# Altium footprint library Antenne.PcbLib: 8 footprints
Each footprint in its own frame and in the unit in brackets; x right, y up, seen from the top. Pads: shape width x height; smd on the part's side, far side on the other; paste and mask are expansions set on the pad; w line width, h text height; cw(c..) or ccw(c..) is an arc to the next point about the centre after c.
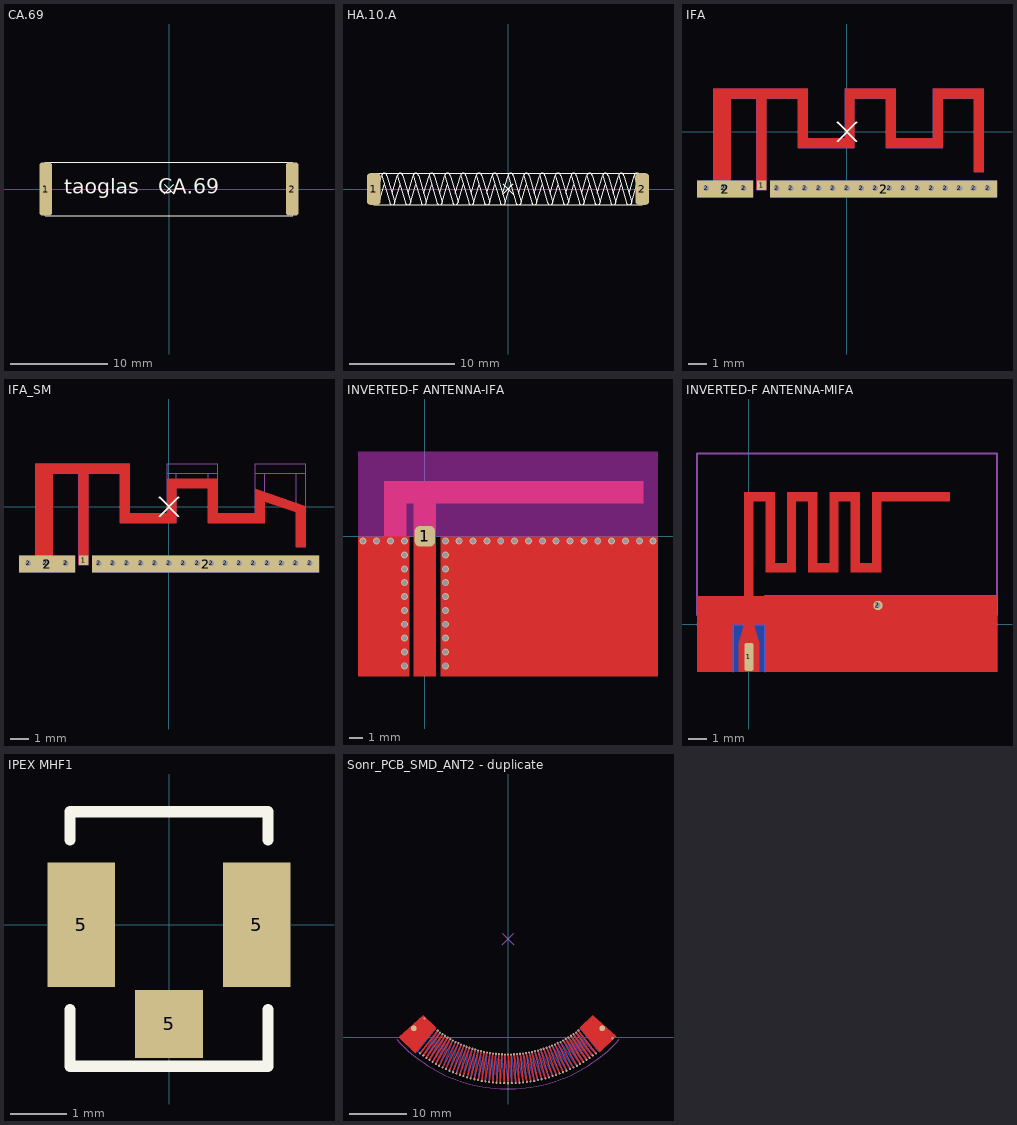
[diagram p0: the footprints below, top view; thin cyan lines are the x and y axes]

## CA.69 [mm]
pads (2):
  rrect50% 1.3x5.5 smd: 1(-12.7,0) 2(12.7,0)
Top Overlay:
  lines w0.1: -0.5,-0.5 0.5,0.5 ; -0.5,0.5 0.5,-0.5 ; -12.75,-2.75 12.75,-2.75 12.75,2.75 -12.75,2.75 -12.75,-2.75
  text "taoglas   CA.69" at -10.792,-0.508 h1.52
3D body: height 0.8, standoff 0, extent -12.75,-2.75 12.75,2.75

## HA.10.A [mm]
pads (2):
  rrect50% 1.3x3 smd: 1(-12.75,0) 2(12.75,0)
Top Overlay:
  circle w0.1: c-12.5,-1.25 r0.25
  lines w0.1: -12.75,-1.25 -12,1.25 ; -12.25,-1.25 -11.75,0.417 ; -11,-0.417 -10.5,1.25 ; -10.25,0.417 -10.75,-1.25 ; -9.5,-0.417 -9,1.25 ; -8.75,0.417 -9.25,-1.25 ; -8,-0.417 -7.5,1.25 ; -7.25,0.417 -7.75,-1.25 ; -6.5,-0.417 -6,1.25 ; -5.75,0.417 -6.25,-1.25 ; -5,-0.417 -4.5,1.25 ; -4.25,0.417 -4.75,-1.25 ; -3.5,-0.417 -3,1.25 ; -2.75,0.417 -3.25,-1.25 ; -2,-0.417 -1.5,1.25 ; -1.25,0.417 -1.75,-1.25 ; -0.5,-0.5 0.5,0.5 ; -0.5,-0.417 0,1.25 ; -0.5,0.5 0.5,-0.5 ; 0.25,0.417 -0.25,-1.25 ; 1,-0.417 1.5,1.25 ; 1.75,0.417 1.25,-1.25 ; 2.5,-0.417 3,1.25 ; 3.25,0.417 2.75,-1.25 ; 4,-0.417 4.5,1.25 ; 4.75,0.417 4.25,-1.25 ; 5.5,-0.417 6,1.25 ; 6.25,0.417 5.75,-1.25 ; 7,-0.417 7.5,1.25 ; 7.75,0.417 7.25,-1.25 ; 8.5,-0.417 9,1.25 ; 9.25,0.417 8.75,-1.25 ; 10,-0.417 10.5,1.25 ; 10.75,0.417 10.25,-1.25 ; 11.5,-0.417 12,1.25 ; 12.25,0.417 11.75,-1.25 ; 12.725,0.5 12.5,1.25 ; -12,1.25 cw(c-11.75,1.25) -11.5,1.25 ; -12,1.25 cw(c-11.75,1.25) -11.5,1.25 ; -12,1.25 cw(c-11.75,1.25) -11.5,1.25 ; -12,1.25 -11.25,-1.25 ; -11.5,1.25 -10.75,-1.25 ; -11.25,-1.25 ccw(c-11,-1.25) -10.75,-1.25 ; -11.25,-1.25 ccw(c-11,-1.25) -10.75,-1.25 ; -10.5,1.25 cw(c-10.25,1.25) -10,1.25 ; -10.5,1.25 cw(c-10.25,1.25) -10,1.25 ; -10.5,1.25 cw(c-10.25,1.25) -10,1.25 ; -10.5,1.25 -9.75,-1.25 ccw(c-9.5,-1.25) -9.25,-1.25 ; -10,1.25 -9.25,-1.25 ; -9,1.25 cw(c-8.75,1.25) -8.5,1.25 ; -9,1.25 cw(c-8.75,1.25) -8.5,1.25 ; -9,1.25 cw(c-8.75,1.25) -8.5,1.25 ; -9,1.25 -8.25,-1.25 ccw(c-8,-1.25) -7.75,-1.25 ; -8.5,1.25 -7.75,-1.25 ; -7.5,1.25 cw(c-7.25,1.25) -7,1.25 ; -7.5,1.25 cw(c-7.25,1.25) -7,1.25 ; -7.5,1.25 cw(c-7.25,1.25) -7,1.25 ; -7.5,1.25 -6.75,-1.25 ccw(c-6.5,-1.25) -6.25,-1.25 ; -7,1.25 -6.25,-1.25 ; -6,1.25 cw(c-5.75,1.25) -5.5,1.25 ; -6,1.25 cw(c-5.75,1.25) -5.5,1.25 ; -6,1.25 cw(c-5.75,1.25) -5.5,1.25 ; -6,1.25 -5.25,-1.25 ccw(c-5,-1.25) -4.75,-1.25 ; -5.5,1.25 -4.75,-1.25 ; -4.5,1.25 cw(c-4.25,1.25) -4,1.25 ; -4.5,1.25 cw(c-4.25,1.25) -4,1.25 ; -4.5,1.25 cw(c-4.25,1.25) -4,1.25 ; -4.5,1.25 -3.75,-1.25 ccw(c-3.5,-1.25) -3.25,-1.25 ; -4,1.25 -3.25,-1.25 ; -3,1.25 cw(c-2.75,1.25) -2.5,1.25 ; -3,1.25 cw(c-2.75,1.25) -2.5,1.25 ; -3,1.25 cw(c-2.75,1.25) -2.5,1.25 ; -3,1.25 -2.25,-1.25 ccw(c-2,-1.25) -1.75,-1.25 ; -2.5,1.25 -1.75,-1.25 ; -1.5,1.25 cw(c-1.25,1.25) -1,1.25 ; -1.5,1.25 cw(c-1.25,1.25) -1,1.25 ; -1.5,1.25 cw(c-1.25,1.25) -1,1.25 ; -1.5,1.25 -0.75,-1.25 ccw(c-0.5,-1.25) -0.25,-1.25 ; -1,1.25 -0.25,-1.25 ; 0,1.25 cw(c0.25,1.25) 0.5,1.25 ; 0,1.25 cw(c0.25,1.25) 0.5,1.25 ; 0,1.25 cw(c0.25,1.25) 0.5,1.25 ; 0,1.25 0.75,-1.25 ccw(c1,-1.25) 1.25,-1.25 ; 0.5,1.25 1.25,-1.25 ; 1.5,1.25 cw(c1.75,1.25) 2,1.25 ; 1.5,1.25 cw(c1.75,1.25) 2,1.25 ; 1.5,1.25 cw(c1.75,1.25) 2,1.25 ; 1.5,1.25 2.25,-1.25 ccw(c2.5,-1.25) 2.75,-1.25 ; 2,1.25 2.75,-1.25 ; 3,1.25 cw(c3.25,1.25) 3.5,1.25 ; 3,1.25 cw(c3.25,1.25) 3.5,1.25 ; 3,1.25 cw(c3.25,1.25) 3.5,1.25 ; 3,1.25 3.75,-1.25 ccw(c4,-1.25) 4.25,-1.25 ; 3.5,1.25 4.25,-1.25 ; 4.5,1.25 cw(c4.75,1.25) 5,1.25 ; 4.5,1.25 cw(c4.75,1.25) 5,1.25 ; 4.5,1.25 cw(c4.75,1.25) 5,1.25 ; 4.5,1.25 5.25,-1.25 ccw(c5.5,-1.25) 5.75,-1.25 ; 5,1.25 5.75,-1.25 ; 6,1.25 cw(c6.25,1.25) 6.5,1.25 ; 6,1.25 cw(c6.25,1.25) 6.5,1.25 ; 6,1.25 cw(c6.25,1.25) 6.5,1.25 ; 6,1.25 6.75,-1.25 ccw(c7,-1.25) 7.25,-1.25 ; 6.5,1.25 7.25,-1.25 ; 7.5,1.25 cw(c7.75,1.25) 8,1.25 ; 7.5,1.25 cw(c7.75,1.25) 8,1.25 ; 7.5,1.25 cw(c7.75,1.25) 8,1.25 ; 7.5,1.25 8.25,-1.25 ccw(c8.5,-1.25) 8.75,-1.25 ; 8,1.25 8.75,-1.25 ; 9,1.25 cw(c9.25,1.25) 9.5,1.25 ; 9,1.25 cw(c9.25,1.25) 9.5,1.25 ; 9,1.25 cw(c9.25,1.25) 9.5,1.25 ; 9,1.25 9.75,-1.25 ccw(c10,-1.25) 10.25,-1.25 ; 9.5,1.25 10.25,-1.25 ; 10.5,1.25 cw(c10.75,1.25) 11,1.25 ; 10.5,1.25 cw(c10.75,1.25) 11,1.25 ; 10.5,1.25 cw(c10.75,1.25) 11,1.25 ; 10.5,1.25 11.25,-1.25 ccw(c11.5,-1.25) 11.75,-1.25 ; 11,1.25 11.75,-1.25 ; 12,1.25 cw(c12.25,1.25) 12.5,1.25 ; 12,1.25 cw(c12.25,1.25) 12.5,1.25 ; 12,1.25 cw(c12.25,1.25) 12.5,1.25 ; 12,1.25 12.75,-1.25 12,1.25 ; -12.75,-1.5 -12.75,1.5 12.75,1.5 12.75,-1.5 -12.75,-1.5

## IFA [mm] "AN043"
pads (25):
  rect 0.5x0.5 smd: 1(-4.55,-2.85)
  round 0.45 hole 0.3: 2(-7.5,-3) 2(-6.6,-3) 2(-5.5,-3) 2(-3.75,-3) 2(-3,-3) 2(-2.25,-3) 2(-1.5,-3) 2(-0.75,-3) 2(0,-3) 2(0.75,-3) 2(1.5,-3) 2(2.25,-3) 2(3,-3) 2(3.75,-3) 2(4.5,-3) 2(5.25,-3) 2(6,-3) 2(6.75,-3) 2(7.5,-3)
  rect 3x0.9 smd: 2(-6.5,-3.05)
  rect 3x0.9 smd far side: 2(-6.5,-3.05)
  round 0.45 hole 0.3 unplated: 2(-5.5,-3)
  rect 12.1x0.9 smd: 2(1.95,-3.05)
  rect 12.1x0.9 smd far side: 2(1.95,-3.05)
Top Layer:
  region: 7.3,-2.14 7.3,2.3 4.6,2.3 4.6,-0.34 2.6,-0.34 2.6,2.3 -0.1,2.3 -0.1,-0.34 -2.1,-0.34 -2.1,2.3 -7.1,2.3 -7.1,-3.1 -6.2,-3.1 -6.2,1.8 -4.8,1.8 -4.8,-3.1 -4.3,-3.1 -4.3,1.8 -2.6,1.8 -2.6,-0.84 0.4,-0.84 0.4,1.8 2.1,1.8 2.1,-0.84 5.1,-0.84 5.1,1.8 6.8,1.8 6.8,-2.14
Top Overlay:
  lines w0.1: -0.5,-0.5 0.5,0.5 ; -0.5,0.5 0.5,-0.5
Top Solder:
  rectangle: -7.6,-2.6 7.6,2.6
  lines w0.01: -7.1,-2.6 -7.6,-2.6 ; -7.6,-2.6 -7.6,2.6 7.6,2.6 7.6,-2.6 -7.6,-2.6
Bottom Solder:
  rectangle: -7.6,-2.6 7.6,2.6
Mechanical 15:
  lines w0.01: -2.6,-0.34 -2.6,-0.84 ; -2.6,1.3 -2.6,1.8 ; 2.1,-0.34 2.1,-0.84 ; 2.1,1.3 2.1,1.8 ; -7.1,-3.1 -7.1,1.8 ; -7.1,-3.1 -6.2,-3.1 ; -7.1,-3.1 -7.1,-2.6 -6.2,-3.1 ; -7.1,1.8 -6.2,1.8 ; -7.1,1.8 -6.6,1.8 -7.1,1.8 ; -7.1,1.8 -2.1,1.8 ; -7.1,1.8 -7.1,2.3 -2.1,2.3 -2.1,1.8 ; -6.2,-3.1 -6.2,1.8 ; -6.2,1.8 -4.8,1.8 ; -4.8,1.8 -4.3,1.8 -4.3,-3.1 -4.8,-3.1 -4.8,1.8 ; -2.6,-0.84 -2.6,1.8 ; -2.6,-0.84 -2.1,-0.84 ; -2.6,1.8 -2.1,1.8 ; -2.6,1.8 -2.1,1.8 ; -2.6,1.8 -2.1,1.8 ; -2.6,1.8 -2.1,1.8 ; -2.1,-0.84 -2.1,1.8 ; -2.1,-0.84 -2.1,-0.34 -0.1,-0.34 -0.1,-0.84 ; -2.1,-0.84 -0.1,-0.84 ; -0.1,-0.84 -0.1,1.8 ; -0.1,-0.84 0.4,-0.84 0.4,1.8 ; -0.1,1.8 0.4,1.8 ; -0.1,1.8 -0.1,2.3 2.6,2.3 2.6,1.8 ; -0.1,1.8 0.4,1.8 ; -0.1,1.8 2.6,1.8 ; 2.1,-0.84 2.1,1.8 ; 2.1,-0.84 2.6,-0.84 ; 2.1,1.8 2.6,1.8 ; 2.1,1.8 2.6,1.8 ; 2.6,-0.84 2.6,1.8 ; 2.6,-0.84 2.6,-0.34 4.6,-0.34 4.6,-0.84 ; 2.6,-0.84 4.6,-0.84 ; 4.6,-0.84 5.1,-0.84 5.1,1.8 4.6,1.8 ; 4.6,-0.84 4.6,1.8 ; 4.6,1.8 4.6,2.3 7.3,2.3 7.3,1.8 ; 4.6,1.8 7.3,1.8 ; 7.3,1.8 6.8,1.8 6.8,-2.14 7.3,-2.14 7.3,1.8

## IFA_SM [mm] "AN043"
pads (25):
  rect 0.5x0.5 smd: 1(-4.55,-2.85)
  round 0.45 hole 0.3: 2(-7.5,-3) 2(-6.6,-3) 2(-5.5,-3) 2(-3.75,-3) 2(-3,-3) 2(-2.25,-3) 2(-1.5,-3) 2(-0.75,-3) 2(0,-3) 2(0.75,-3) 2(1.5,-3) 2(2.25,-3) 2(3,-3) 2(3.75,-3) 2(4.5,-3) 2(5.25,-3) 2(6,-3) 2(6.75,-3) 2(7.5,-3)
  rect 3x0.9 smd: 2(-6.5,-3.05)
  rect 3x0.9 smd far side: 2(-6.5,-3.05)
  round 0.45 hole 0.3 unplated: 2(-5.5,-3)
  rect 12.1x0.9 smd: 2(1.95,-3.05)
  rect 12.1x0.9 smd far side: 2(1.95,-3.05)
Top Layer:
  region: 7.3,-2.14 7.3,0.025 4.6,0.975 4.6,-0.34 2.6,-0.34 2.6,1.5 -0.1,1.5 -0.1,-0.34 -2.1,-0.34 -2.1,2.3 -7.1,2.3 -7.1,-3.1 -6.2,-3.1 -6.2,1.8 -4.8,1.8 -4.8,-3.1 -4.3,-3.1 -4.3,1.8 -2.6,1.8 -2.6,-0.84 0.4,-0.84 0.4,1 2.1,1 2.1,-0.84 5.1,-0.84 5.1,0.275 6.8,-0.3 6.8,-2.14
Top Overlay:
  lines w0.1: -0.5,-0.5 0.5,0.5 ; -0.5,0.5 0.5,-0.5
Top Solder:
  rectangle: -7.6,-2.6 7.6,2.6
  lines w0.01: -7.1,-2.6 -7.6,-2.6 ; -7.6,-2.6 7.6,-2.6 7.6,2.6 -7.6,2.6 -7.6,-2.6
Bottom Solder:
  rectangle: -7.6,-2.6 7.6,2.6
Mechanical 15:
  lines w0.01: -2.6,-0.34 -2.6,-0.84 ; -2.6,1.3 -2.6,1.8 ; 2.1,-0.34 2.1,-0.84 ; 2.1,1.3 2.1,1.8 ; -7.1,-3.1 -7.1,-2.6 -6.2,-3.1 ; -7.1,-3.1 -6.2,-3.1 ; -7.1,-3.1 -7.1,1.8 ; -7.1,1.8 -7.1,2.3 -2.1,2.3 -2.1,1.8 ; -7.1,1.8 -6.6,1.8 -7.1,1.8 ; -7.1,1.8 -2.1,1.8 ; -7.1,1.8 -6.2,1.8 ; -6.2,-3.1 -6.2,1.8 ; -6.2,1.8 -4.8,1.8 ; -4.8,1.8 -4.8,-3.1 -4.3,-3.1 -4.3,1.8 -4.8,1.8 ; -2.6,-0.84 -2.1,-0.84 ; -2.6,-0.84 -2.6,1.8 ; -2.6,1.8 -2.1,1.8 ; -2.6,1.8 -2.1,1.8 ; -2.6,1.8 -2.1,1.8 ; -2.6,1.8 -2.1,1.8 ; -2.1,-0.84 -0.1,-0.84 ; -2.1,-0.84 -2.1,-0.34 -0.1,-0.34 -0.1,-0.84 ; -2.1,-0.84 -2.1,1.8 ; -0.1,-0.84 0.4,-0.84 0.4,1.8 ; -0.1,-0.84 -0.1,1.8 ; -0.1,1.8 2.6,1.8 ; -0.1,1.8 0.4,1.8 ; -0.1,1.8 -0.1,2.3 2.6,2.3 2.6,1.8 ; -0.1,1.8 0.4,1.8 ; 2.1,-0.84 2.6,-0.84 ; 2.1,-0.84 2.1,1.8 ; 2.1,1.8 2.6,1.8 ; 2.1,1.8 2.6,1.8 ; 2.6,-0.84 4.6,-0.84 ; 2.6,-0.84 2.6,-0.34 4.6,-0.34 4.6,-0.84 ; 2.6,-0.84 2.6,1.8 ; 4.6,-0.84 4.6,1.8 ; 4.6,-0.84 5.1,-0.84 5.1,1.8 4.6,1.8 ; 4.6,1.8 7.3,1.8 ; 4.6,1.8 4.6,2.3 7.3,2.3 7.3,1.8 ; 7.3,1.8 7.3,-2.14 6.8,-2.14 6.8,1.8 7.3,1.8

## INVERTED-F ANTENNA-IFA [mm]
pads (1):
  rrect50% 1.5x1.5 smd mask+0.102: 1(0,0)
via -3.531,-0.356 diameter 0.508 hole 0.381
via -2.515,-0.356 diameter 0.508 hole 0.381
via 16.739,-0.356 diameter 0.508 hole 0.381
via 15.723,-0.356 diameter 0.508 hole 0.381
via 14.707,-0.356 diameter 0.508 hole 0.381
via 13.691,-0.356 diameter 0.508 hole 0.381
via 12.675,-0.356 diameter 0.508 hole 0.381
via 11.659,-0.356 diameter 0.508 hole 0.381
via 10.643,-0.356 diameter 0.508 hole 0.381
via 9.627,-0.356 diameter 0.508 hole 0.381
via 8.611,-0.356 diameter 0.508 hole 0.381
via 7.595,-0.356 diameter 0.508 hole 0.381
via 6.579,-0.356 diameter 0.508 hole 0.381
via 5.563,-0.356 diameter 0.508 hole 0.381
via 4.547,-0.356 diameter 0.508 hole 0.381
via 3.531,-0.356 diameter 0.508 hole 0.381
via 1.499,-1.372 diameter 0.508 hole 0.381
via 2.515,-0.356 diameter 0.508 hole 0.381
via -1.499,-0.356 diameter 0.508 hole 0.381
via 1.499,-0.356 diameter 0.508 hole 0.381
via -4.547,-0.356 diameter 0.508 hole 0.381
via -1.499,-1.372 diameter 0.508 hole 0.381
via -1.499,-2.388 diameter 0.508 hole 0.381
via -1.499,-3.404 diameter 0.508 hole 0.381
via -1.499,-4.42 diameter 0.508 hole 0.381
via -1.499,-5.436 diameter 0.508 hole 0.381
via -1.499,-6.452 diameter 0.508 hole 0.381
via -1.499,-7.468 diameter 0.508 hole 0.381
via -1.499,-8.484 diameter 0.508 hole 0.381
via -1.499,-9.5 diameter 0.508 hole 0.381
via 1.499,-2.388 diameter 0.508 hole 0.381
via 1.499,-3.404 diameter 0.508 hole 0.381
via 1.499,-4.42 diameter 0.508 hole 0.381
via 1.499,-5.436 diameter 0.508 hole 0.381
via 1.499,-6.452 diameter 0.508 hole 0.381
via 1.499,-7.468 diameter 0.508 hole 0.381
via 1.499,-8.484 diameter 0.508 hole 0.381
via 1.499,-9.5 diameter 0.508 hole 0.381
Top Layer:
  rectangle: -0.826,0 0.826,4.064
  rectangle: -2.984,2.413 16.015,4.064
  rectangle: -2.984,-0.025 -1.333,4.064
  rectangle: -0.826,-10.287 0.826,0.089
  rectangle: -4.902,-10.287 -1.13,0
  region: 17.094,0 1.13,0 1.13,-10.287 17.094,-10.287
Keep-Out Layer:
  rectangle: -4.902,0 17.094,6.223

## INVERTED-F ANTENNA-MIFA [mm]
pads (2):
  rrect50% 0.5x1.5 smd mask+0.102: 1(0,-1.75)
  round 0.5 hole 0.3 mask+0.102: 2(6.934,1.016)
Top Layer:
  rectangle: -0.254,-0.203 0.254,7.112
  region: 10.795,6.604 10.795,7.112 6.604,7.112 6.604,6.604
  region: -0.254,7.112 -0.254,6.604 1.397,6.604 1.397,7.112
  region: 1.397,7.112 0.889,7.112 0.889,2.794 1.397,2.794
  region: 2.54,2.794 2.54,3.302 0.889,3.302 0.889,2.794
  region: 2.54,7.112 2.032,7.112 2.032,2.794 2.54,2.794
  region: 2.032,7.112 2.032,6.604 3.683,6.604 3.683,7.112
  region: 3.683,7.112 3.175,7.112 3.175,2.794 3.683,2.794
  region: 4.826,2.794 4.826,3.302 3.175,3.302 3.175,2.794
  region: 4.826,7.112 4.318,7.112 4.318,2.794 4.826,2.794
  region: 4.318,7.112 4.318,6.604 5.969,6.604 5.969,7.112
  region: 5.969,7.112 5.461,7.112 5.461,2.794 5.969,2.794
  region: 7.112,2.794 7.112,3.302 5.461,3.302 5.461,2.794
  region: 7.112,7.112 6.604,7.112 6.604,2.794 7.112,2.794
  region: 7.188,0.762 7.188,1.27 -0.254,1.27 -0.254,0.762
  pour cut-out: -2.794,0 13.335,0 13.335,1.524 -2.794,1.524
  region: -2.794,-2.54 -2.794,0 -0.899,0 -0.899,-2.54
  region: 0.864,-2.54 0.864,0 13.335,0 13.335,-2.54
  region: 0.254,0 0.559,-1.016 0.559,-2.54 0,-2.54 0,0
  region: -0.254,0 -0.559,-1.016 -0.559,-2.54 0,-2.54 0,0
Bottom Layer:
  pour cut-out: -2.794,0 13.335,0 13.335,1.524 -2.794,1.524
  region: 13.335,-2.54 -2.794,-2.54 -2.794,0 0.864,0 0.864,1.524 13.335,1.524
Mechanical 1:
  lines w0.1: -2.794,0 -0.864,0 -0.864,-2.54 ; 0.864,-2.54 0.864,0 13.335,0 ; -2.794,0.5 -2.794,9.195 13.335,9.195 13.335,0.5 -2.794,0.5
Mechanical 13:
  lines w0.1: -2.794,0 0.864,0 0.864,1.524 13.335,1.524

## IPEX MHF1 [mm]
pads (3):
  rect 1.2x2.2 smd: 5(-1.55,0) 5(1.55,0)
  rect 1.2x1.2 smd: 5(0,-1.75)
Top Overlay:
  lines w0.2: -1.75,-1.5 -1.75,-2.5 1.75,-2.5 1.75,-1.5 ; -1.75,1.5 -1.75,2 1.75,2 1.75,1.5
3D body "User Library-20279-001.step": height 1.25, standoff -0.01, extent -1.5,-1.55 1.5,1.55

## Sonr_PCB_SMD_ANT2 - duplicate [mm]
pads (2):
  round 1 smd paste-2: 1(-16.321,1.512) 1(16.321,1.512)
via -10,-0.321 diameter 0.36 hole 0.2
via -10.45,-0.053 diameter 0.36 hole 0.2
via -10.893,0.227 diameter 0.36 hole 0.2
via -12.175,1.133 diameter 0.36 hole 0.2
via 7.1,-6.97 diameter 0.36 hole 0.2
via -3.263,-7.786 diameter 0.36 hole 0.2
via -7.1,-6.97 diameter 0.36 hole 0.2
via -7.725,-6.776 diameter 0.36 hole 0.2
via -8.345,-6.566 diameter 0.36 hole 0.2
via -8.959,-6.339 diameter 0.36 hole 0.2
via -9.567,-6.097 diameter 0.36 hole 0.2
via -15.219,-2.834 diameter 0.36 hole 0.2
via -14.695,-3.225 diameter 0.36 hole 0.2
via -14.507,3.233 diameter 0.36 hole 0.2
via 18.134,-0.209 diameter 0.36 hole 0.2
via 12.175,1.133 diameter 0.36 hole 0.2
via 15.219,-2.834 diameter 0.36 hole 0.2
via 1.308,-7.966 diameter 0.36 hole 0.2
via -10.168,-5.839 diameter 0.36 hole 0.2
via -10.763,-5.565 diameter 0.36 hole 0.2
via 3.263,-7.786 diameter 0.36 hole 0.2
via 2.613,-7.863 diameter 0.36 hole 0.2
via 1.961,-7.923 diameter 0.36 hole 0.2
via 0.654,-7.991 diameter 0.36 hole 0.2
via 0,-8 diameter 0.36 hole 0.2
via -0.654,-7.991 diameter 0.36 hole 0.2
via -1.308,-7.966 diameter 0.36 hole 0.2
via -3.911,-7.692 diameter 0.36 hole 0.2
via -11.35,-5.275 diameter 0.36 hole 0.2
via -11.929,-4.97 diameter 0.36 hole 0.2
via -12.5,-4.651 diameter 0.36 hole 0.2
via -13.062,-4.316 diameter 0.36 hole 0.2
via -13.616,-3.967 diameter 0.36 hole 0.2
via 11.929,-4.97 diameter 0.36 hole 0.2
via 12.5,-4.651 diameter 0.36 hole 0.2
via 11.756,0.82 diameter 0.36 hole 0.2
via -14.16,-3.603 diameter 0.36 hole 0.2
via 11.328,0.518 diameter 0.36 hole 0.2
via 9.543,-0.576 diameter 0.36 hole 0.2
via 8.135,-1.271 diameter 0.36 hole 0.2
via 7.654,-1.478 diameter 0.36 hole 0.2
via 7.167,-1.672 diameter 0.36 hole 0.2
via 10.893,0.227 diameter 0.36 hole 0.2
via 10.45,-0.053 diameter 0.36 hole 0.2
via 10,-0.32 diameter 0.36 hole 0.2
via 8.61,-1.052 diameter 0.36 hole 0.2
via 9.08,-0.82 diameter 0.36 hole 0.2
via 6.676,-1.853 diameter 0.36 hole 0.2
via 6.18,-2.021 diameter 0.36 hole 0.2
via 5.68,-2.176 diameter 0.36 hole 0.2
via 5.176,-2.319 diameter 0.36 hole 0.2
via 4.669,-2.447 diameter 0.36 hole 0.2
via 4.158,-2.563 diameter 0.36 hole 0.2
via 3.645,-2.665 diameter 0.36 hole 0.2
via 3.129,-2.754 diameter 0.36 hole 0.2
via 2.611,-2.829 diameter 0.36 hole 0.2
via 2.091,-2.89 diameter 0.36 hole 0.2
via 1.569,-2.938 diameter 0.36 hole 0.2
via 1.047,-2.973 diameter 0.36 hole 0.2
via 0.524,-2.993 diameter 0.36 hole 0.2
via 0,-3 diameter 0.36 hole 0.2
via -0.524,-2.993 diameter 0.36 hole 0.2
via -1.047,-2.973 diameter 0.36 hole 0.2
via -1.569,-2.938 diameter 0.36 hole 0.2
via -2.091,-2.89 diameter 0.36 hole 0.2
via -2.611,-2.829 diameter 0.36 hole 0.2
via -3.129,-2.754 diameter 0.36 hole 0.2
via -3.645,-2.665 diameter 0.36 hole 0.2
via -4.158,-2.563 diameter 0.36 hole 0.2
via -4.669,-2.447 diameter 0.36 hole 0.2
via -5.176,-2.319 diameter 0.36 hole 0.2
via -5.68,-2.176 diameter 0.36 hole 0.2
via -6.18,-2.021 diameter 0.36 hole 0.2
via -6.676,-1.853 diameter 0.36 hole 0.2
via -7.167,-1.672 diameter 0.36 hole 0.2
via -7.654,-1.478 diameter 0.36 hole 0.2
via -8.135,-1.271 diameter 0.36 hole 0.2
via -8.61,-1.052 diameter 0.36 hole 0.2
via -9.08,-0.82 diameter 0.36 hole 0.2
via -11.328,0.517 diameter 0.36 hole 0.2
via -11.756,0.82 diameter 0.36 hole 0.2
via -9.543,-0.576 diameter 0.36 hole 0.2
via 6.47,-7.148 diameter 0.36 hole 0.2
via 5.198,-7.454 diameter 0.36 hole 0.2
via 14.695,-3.225 diameter 0.36 hole 0.2
via 14.16,-3.603 diameter 0.36 hole 0.2
via 13.616,-3.967 diameter 0.36 hole 0.2
via 13.062,-4.316 diameter 0.36 hole 0.2
via 11.35,-5.275 diameter 0.36 hole 0.2
via 10.763,-5.565 diameter 0.36 hole 0.2
via 10.168,-5.839 diameter 0.36 hole 0.2
via 9.567,-6.097 diameter 0.36 hole 0.2
via 8.959,-6.339 diameter 0.36 hole 0.2
via 8.345,-6.566 diameter 0.36 hole 0.2
via 7.725,-6.776 diameter 0.36 hole 0.2
via 5.836,-7.309 diameter 0.36 hole 0.2
via 4.556,-7.581 diameter 0.36 hole 0.2
via 3.911,-7.692 diameter 0.36 hole 0.2
via -1.961,-7.923 diameter 0.36 hole 0.2
via -2.613,-7.863 diameter 0.36 hole 0.2
via -4.556,-7.581 diameter 0.36 hole 0.2
via -5.198,-7.454 diameter 0.36 hole 0.2
via -5.836,-7.309 diameter 0.36 hole 0.2
via -6.47,-7.148 diameter 0.36 hole 0.2
Top Layer:
  region: 12.429,1.651 15.89,-2.623 18.764,0.104 14.677,3.785
  region: -12.429,1.651 -14.677,3.785 -18.95,-0.063 -16.048,-2.817
  lines w0.25: -15.219,-2.834 -12.175,1.133 ; -14.695,-3.225 -11.756,0.82 ; -14.16,-3.603 -11.328,0.517 ; -13.616,-3.967 -10.893,0.227 ; -13.062,-4.316 -10.45,-0.053 ; -12.5,-4.651 -10,-0.321 ; -11.929,-4.97 -9.543,-0.576 ; -11.35,-5.275 -9.08,-0.82 ; -10.763,-5.565 -8.61,-1.052 ; -10.168,-5.839 -8.135,-1.271 ; -9.567,-6.097 -7.654,-1.478 ; -8.959,-6.339 -7.167,-1.672 ; -8.345,-6.566 -6.676,-1.853 ; -7.725,-6.776 -6.18,-2.021 ; -7.1,-6.97 -5.68,-2.176 ; -6.47,-7.148 -5.176,-2.319 ; -5.836,-7.309 -4.669,-2.447 ; -5.198,-7.454 -4.158,-2.563 ; -4.556,-7.581 -3.645,-2.665 ; -3.911,-7.692 -3.168,-3.001 -3.129,-2.754 ; -3.263,-7.786 -2.611,-2.829 ; -2.613,-7.863 -2.091,-2.89 ; -1.961,-7.923 -1.569,-2.938 ; -1.308,-7.966 -1.047,-2.973 ; -0.654,-7.991 -0.524,-2.993 ; 0,-8 0,-3 ; 0.524,-2.993 0.654,-7.991 ; 1.047,-2.973 1.308,-7.966 ; 1.569,-2.938 1.942,-7.674 ; 1.903,-7.175 1.961,-7.923 ; 2.091,-2.89 2.613,-7.863 ; 2.611,-2.829 3.263,-7.786 ; 3.129,-2.754 3.911,-7.692 ; 3.645,-2.665 4.556,-7.581 ; 4.158,-2.563 5.198,-7.454 ; 4.669,-2.447 5.836,-7.309 ; 5.176,-2.319 5.241,-2.56 6.47,-7.148 ; 5.68,-2.176 7.1,-6.97 ; 6.18,-2.021 7.725,-6.776 ; 6.676,-1.853 8.345,-6.566 ; 7.167,-1.672 8.959,-6.339 ; 7.654,-1.478 9.567,-6.097 ; 8.135,-1.271 10.168,-5.839 ; 8.61,-1.052 10.763,-5.565 ; 9.08,-0.82 11.35,-5.275 ; 9.543,-0.576 11.929,-4.97 ; 10,-0.32 12.5,-4.651 ; 10.45,-0.053 13.062,-4.316 ; 10.893,0.227 13.616,-3.967 ; 11.328,0.518 14.16,-3.603 ; 11.756,0.82 14.695,-3.225 ; 12.175,1.133 15.219,-2.834
Bottom Layer:
  lines w0.25: -15.219,-2.834 -15.733,-2.429 -12.586,1.457 -12.989,1.792 -16.236,-2.01 -16.728,-1.579 -13.383,2.137 -13.767,2.493 -17.209,-1.134 -17.678,-0.678 -14.142,2.858 -14.507,3.233 ; -14.695,-3.225 -12.175,1.133 ; -14.16,-3.603 -11.756,0.82 ; -13.616,-3.967 -11.328,0.517 ; -13.062,-4.316 -10.893,0.227 ; -12.5,-4.651 -10.45,-0.053 ; -11.929,-4.97 -10,-0.321 ; -11.35,-5.275 -9.543,-0.576 ; -10.763,-5.565 -9.08,-0.82 ; -10.168,-5.839 -8.61,-1.052 ; -9.567,-6.097 -8.135,-1.271 ; -8.959,-6.339 -7.654,-1.478 ; -8.345,-6.566 -7.167,-1.672 ; -7.725,-6.776 -6.676,-1.853 ; -7.1,-6.97 -6.18,-2.021 ; -6.47,-7.148 -5.68,-2.176 ; -5.836,-7.309 -5.176,-2.319 ; -5.198,-7.454 -4.669,-2.447 ; -4.556,-7.581 -4.158,-2.563 ; -3.911,-7.692 -3.645,-2.665 ; -3.263,-7.786 -3.129,-2.754 ; -2.613,-7.863 -2.611,-2.829 ; -2.091,-2.89 -1.961,-7.923 ; -1.569,-2.938 -1.308,-7.966 ; -1.047,-2.973 -0.654,-7.991 ; -0.524,-2.993 0,-8 ; 0,-3 0.654,-7.991 ; 0.524,-2.993 1.308,-7.966 ; 1.047,-2.973 1.961,-7.923 ; 1.569,-2.938 2.613,-7.863 ; 2.091,-2.89 3.263,-7.786 ; 2.611,-2.829 3.911,-7.692 ; 3.129,-2.754 4.556,-7.581 ; 3.645,-2.665 5.198,-7.454 ; 4.158,-2.563 5.836,-7.309 ; 4.669,-2.447 6.47,-7.148 ; 5.176,-2.319 7.1,-6.97 ; 5.68,-2.176 7.725,-6.776 ; 6.18,-2.021 8.345,-6.566 ; 6.676,-1.853 8.959,-6.339 ; 7.167,-1.672 9.567,-6.097 ; 7.654,-1.478 10.168,-5.839 ; 8.135,-1.271 10.763,-5.565 ; 8.61,-1.052 11.35,-5.275 ; 9.08,-0.82 11.929,-4.97 ; 9.543,-0.576 12.5,-4.651 ; 10,-0.32 13.062,-4.316 ; 10.45,-0.053 13.616,-3.967 ; 10.893,0.227 14.16,-3.603 ; 11.328,0.518 14.695,-3.225 ; 11.756,0.82 15.219,-2.834 ; 12.175,1.133 12.586,1.457 15.733,-2.429 16.236,-2.01 12.989,1.792 13.383,2.137 16.728,-1.579 17.209,-1.134 13.767,2.492 14.142,2.858 17.678,-0.678 18.134,-0.209
Bottom Overlay:
  lines w0.1: -0.25,-5.75 0.25,-5.25 ; -0.25,-5.25 0.25,-5.75 ; -18.95,-0.063 ccw(c0,17) 18.95,-0.063 14.677,3.785 cw(c0,17) -14.677,3.785 -18.95,-0.063
Mechanical 3:
  lines w0.1: -19.322,-0.397 ccw(c0,17) 19.322,-0.397 ; -1,16 1,18 ; -1,18 1,16
  text "Angular step=1.5 / Radial step=0.25" at 5.396,-7.522 h1.5